# Altium schematic symbol library Tarefinha.SchLib: 12 symbols
Pins are listed as number, name and electrical type; pins without a type are passive.

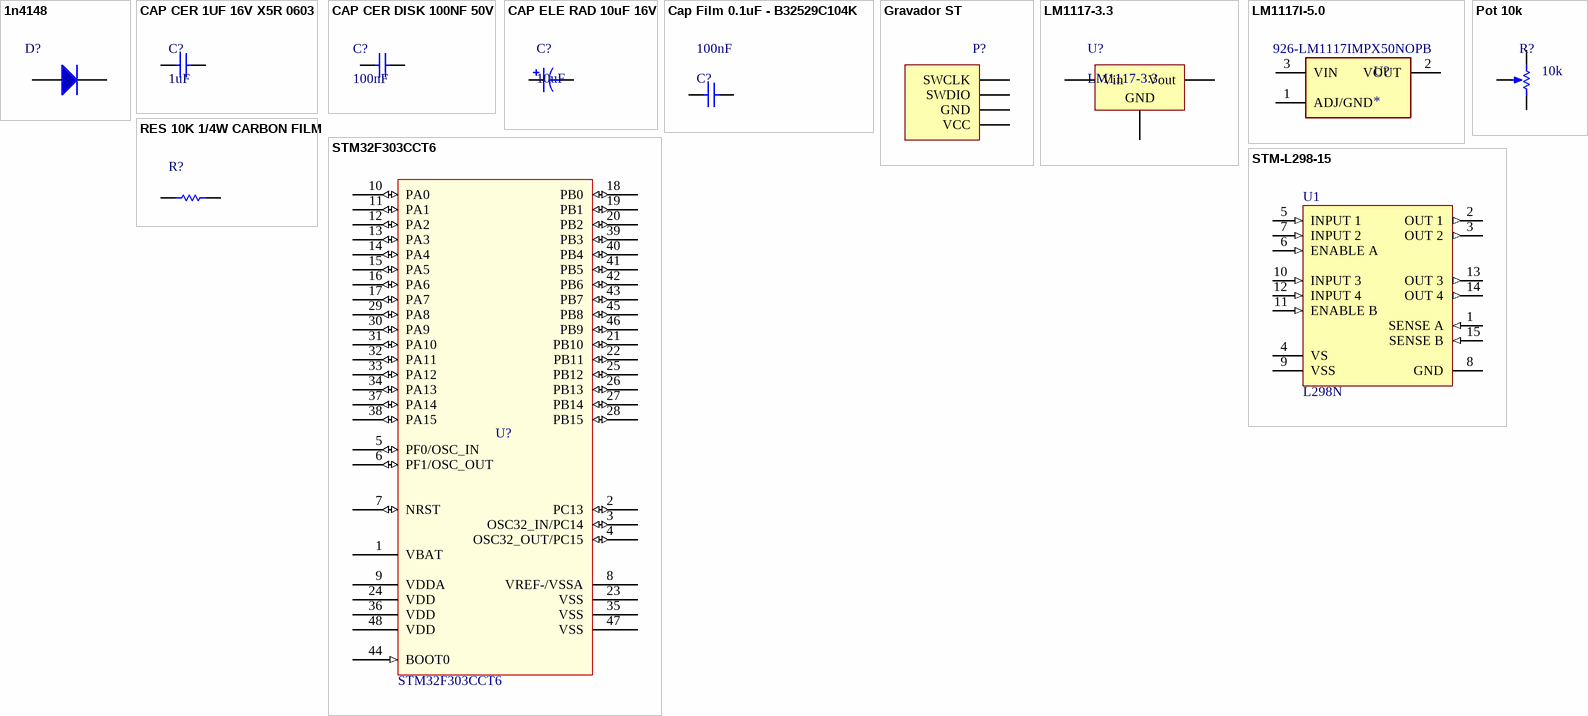
[diagram p0: symbols 1n4148 to STM-L298-15]

## 1n4148
designator D?  (value not drawn)
DIODE GEN PURP 75V 2A SOD123; Manufacturer: Vishay Semiconductor Diodes Division; Manufacturer Part Number: 1N4148W-E3-08; Diode Type: Standard; Current - Average Rectified (Io): 150mA; Voltage - Forward (Vf) (Max) @ If: 1.2V @ 100mA; Speed: Small Signal =< 200mA (Io), Any Speed; Reverse Recovery Time (trr): 4ns; Current - Reverse Leakage @ Vr: 100µA @ 100V; Capacitance @ Vr, F: 4pF @ 0V, 1MHz; Supplier 1: Digi-Key; RoHS: RoHS Compliant; Category: Discrete Semiconductor Products; Stock 1: 32600; Pricing 1: 1=0.23, 10=0.188, 25=0.1576, 100=0.0998, 250=0.07704, 500=0.06566, 1000=0.04465 (USD); Packaging: Cut Tape (CT); Part Status: Active; Voltage - DC Reverse (Vr) (Max): 75V; Mounting Type: Surface Mount; Package / Case: SOD-123; Supplier Device Package: SOD-123; Operating Temperature - Junction: 150°C (Max); ComponentLink1URL: http://www.vishay.com/docs/85748/1n4148w.pdf; ComponentLink1Description: http://www.vishay.com/docs/85748/1n4148w.pdf; Supplier Part Number 1: 1N4148W-E3-08CT-ND
footprint DO-41 (Diode, thru-hole)
pins: 1, 2

## CAP CER 1UF 16V X5R 0603
designator C?, comment 1uF
CAP CER 1UF 16V X5R 0603; Manufacturer: Murata Electronics North America; Manufacturer Part Number: GRM188R61C105KA93D; Capacitance: 1µF; Tolerance: ±10%; Supplier 1: Digi-Key; RoHS: RoHS Compliant; Category: Capacitors; Stock 1: 899102; Pricing 1: 1=0.1, 10=0.034, 50=0.0182, 100=0.0154, 250=0.0126, 500=0.01078, 1000=0.0084 (USD); Packaging: Cut Tape (CT); Part Status: Active; Voltage - Rated: 16V; Temperature Coefficient: X5R; Operating Temperature: -55°C ~ 85°C; Features: -; Ratings: -; Applications: General Purpose; Failure Rate: *; Mounting Type: Surface Mount, MLCC; Package / Case: 0603 (1608 Metric); Size / Dimension: 0.063" L x 0.031" W (1.60mm x 0.80mm); Height - Seated (Max): -; Thickness (Max): 0.035" (0.90mm); Lead Spacing: -; Lead Style: -; ComponentLink1URL: http://www.murata.com/~/media/webrenewal/support/library/catalog/products/capacitor/mlcc/c02e.pdf; ComponentLink1Description: http://www.murata.com/~/media/webrenewal/support/library/catalog/products/capacitor/mlcc/c02e.pdf; Supplier Part Number 1: 490-1536-1-ND
footprint CAP CER DISK 100NF 50V - duplicate (Connector; Header; 5 Position)
pins: 1, 2

## CAP CER DISK 100NF 50V
designator C?, comment 100nF
CAP CER DISK 100NF 50V; Manufacturer Part Number: IMP14925; Product Range: MCFY Series; Capacitance: 0.1uF; Capacitance Tolerance: +80%, -20%; Dielectric Characteristic: Y5; Voltage Rating: 50; Capacitor Terminals: Radial Leaded; SVHC: No SVHC (15-Jun-2015); Supplier 1: Mult Comercial; Manufacturer: -; RoHS: YES; Stock 1: 115809; Pricing 1: 1=0.10 (BRL); Packaging: Each; Lead Spacing: 5; Operating Temperature Min: -25; Operating Temperature Max: 85; Capacitance Tolerance ±: +80%, -20%; Operating Temperature Range: -25°C to +85°C<!--FANDB--><div class="features-and-benefits-container"><div class="features-and-benefits-description"><span class="features-benefits-value">The MCFY series from Multicomp are radial leaded ceramic disc capacitors. The capacitance values ranges from 6800pF to 0.22?F.</span></div><div class="features-and-benefits-list"><ul class="features-and-benefits-list-list"><li class="features-and-benefits-list-item">Large capacitance in small size</li><li class="features-and-benefits-list-item">Rated voltage of 50V</li><li class="features-and-benefits-list-item">80%/-20% tolerance</li><li class="features-and-benefits-list-item">Operating temperature range -25°C to +85; ComponentLink1URL: http://loja.multcomercial.com.br/capacitor-ceramico-disco-100kpf-50v-104-100k-100nf-0-1uf-cod-1351.html; ComponentLink1Description: http://loja.multcomercial.com.br/capacitor-ceramico-disco-100kpf-50v-104-100k-100nf-0-1uf-cod-1351.html; Supplier Part Number 1: Capacitor Cerâmico Disco 100Kpf/50V (104/100K/100nF/0.1uF) cód. 1351
footprint CAP CER DISK 100NF 50V (Connector; Header; 5 Position)
pins: 1, 2

## CAP ELE RAD 10uF 16V
designator C?, comment 10uF
CAP ELE RAD 10uF 16V; Manufacturer Part Number: IMP1295; Product Range: MCGPR Series; Capacitance Tolerance: ± 20%; Voltage Rating: 16; Capacitor Terminals: Radial Leaded; Lifetime @ Temperature: 2000 hours @ 85; SVHC: No SVHC (15-Jun-2015); Leakage Current: 6; Supplier 1: Mult Comercial; Manufacturer: -; RoHS: YES; Stock 1: 33826; Pricing 1: 1=0.50 (BRL); Capacitance: 10uF; Diameter: 5; Packaging: Each; ESR: -; Height: 11; Lead Spacing: 2; Operating Temperature Min: -40; Operating Temperature Max: 85; Capacitance Tolerance ±: ± 20%; Operating Temperature Range: -40°C to +85°C<!--FANDB--><div class="features-and-benefits-container"><div class="features-and-benefits-description"><span class="features-benefits-value">The Multicomp MCGPR series capacitors are general purpose, radial leaded polarized aluminium electrolytic capacitors. MCGPR series parts cover broad range of voltage ratings and capacitance values.</span></div><div class="features-and-benefits-list"><ul class="features-and-benefits-list-list"><li class="features-and-benefits-list-item">Capacitance value ranges from 0.1µF to 22000µF for 6.3VDC to 100VDC</li><li class="features-and-benefits-list-item">Capacitance value ranges from 0.47µF to 820µF for 160VDC to 450VDC</li><li class="features-and-benefits-list-item">Tolerance of ±20%</li><li class="features-and-benefits-list-item">Endurance of 2000h at 85°C</li><li class="features-and-benefits-list-item">Available in -40°C to 85°C and -25°C to 85; ComponentLink1URL: http://loja.multcomercial.com.br/capacitor-eletrolitico-10uf-16v.html; ComponentLink1Description: http://loja.multcomercial.com.br/capacitor-eletrolitico-10uf-16v.html; Supplier Part Number 1: Capacitor Eletrolítico 10uF/16V
footprint CAP RAD 10UF 35V
pins: 1, 2

## Cap Film 0.1uF - B32529C104K
designator C?, comment Capacitance: 100nF  (hidden comment: Cap Film 0.1uF)
Cap Film 0.1uF 63V PET 10% (7.2 X 2.5 X 6.5mm) Radial 5mm 125C Bulk; Manufacturer: TDK EPCOS; Manufacturer Part Number: B32529C104K; Material: PVC,Resin; Voltage Rating (AC): 40V; Life (Hours): 200000Hour; Insulation Resistance: 15GR; Lead Diameter: 0.5mm; Lead Length: 6mm; Supplier 1: Newark; Stock 1: 0; Mount: PCB,Through Hole; Case/Package: Radial; Number of Pins: 2; Dielectric Material: PET; Contact Plating: Matte,Tin; Min Operating Temperature: -55°C; Max Operating Temperature: 125°C; Voltage Rating: 63V; Tolerance: 10%; Packaging: Bulk; Voltage Rating (DC): 63V; Package Quantity: 2000; Termination: Radial; Dielectric: PET; Length: 7.2mm; Height: 6.5mm; Lead Pitch: 5mm; Width: 2.5mm; Height - Seated (Max): 0.256inch; Depth: 2.5mm; Pitch: 5mm; Radiation Hardening: No; REACH SVHC: No SVHC; Lead Free: Lead Free; ComponentLink1URL: http://www.farnell.com/datasheets/8708.pdf?src-supplier=Element14; ComponentLink1Description: http://www.farnell.com/datasheets/8708.pdf?src-supplier=Element14; ComponentLink2URL: https://www.distrelec.biz/Web/Downloads/_t/ds/b3252x_eng_tds.pdf?mime=application%2Fpdf&src-supplier=Distrelec; ComponentLink2Description: https://www.distrelec.biz/Web/Downloads/_t/ds/b3252x_eng_tds.pdf?mime=application%2Fpdf&src-supplier=Distrelec; ComponentLink3URL: http://www.farnell.com/datasheets/1955213.pdf?src-supplier=Farnell; ComponentLink3Description: http://www.farnell.com/datasheets/1955213.pdf?src-supplier=Farnell; ComponentLink4URL: https://www.verical.com/server-webapp/html/getDatasheet?partID=117180&src-supplier=Verical; ComponentLink4Description: https://www.verical.com/server-webapp/html/getDatasheet?partID=117180&src-supplier=Verical; ComponentLink5URL: https://produktinfo.conrad.com/datenblaetter/500000-524999/500871-da-01-en-METALLPOLYESTER_KONDENSATOR_0_10_UF.pdf?src-supplier=Conrad; ComponentLink5Description: https://produktinfo.conrad.com/datenblaetter/500000-524999/500871-da-01-en-METALLPOLYESTER_KONDENSATOR_0_10_UF.pdf?src-supplier=Conrad; Supplier Part Number 1: 21C0469
footprint Cap Film 0.1uF
pins: 1, 2

## Gravador ST
designator P?  (value not drawn)
Headers & Wire Housings 40Pin 2mm Spacing Single Row Hdrs, 5pc; Manufacturer: Cromax; Manufacturer Part Number: IMP10327; Mounting Angle: Vertical; Number of Positions: 40 Position; Supplier 1: Mult Comercial; RoHS: RoHS Compliant; Category: Headers & Wire Housings; Stock 1: 14; Pricing 1: 1=1.00, 5=0.20 (BRL); Accessory Type: -; Contact Plating: Gold; Contact Type: -; Number of Rows: 1 Row; Product: Headers; Termination Style: Through Hole; Type: Breakaway; Brand: Cromax; Mounting Style: Straight Pin; Pitch: 2 mm; Row Spacing: -; Contact Gender: Pin (Male); Product Category: Accessories; RoHS - Mouser: Y; Minimum Order Quantity: 1; Reeling: False; ComponentLink1URL: http://loja.multcomercial.com.br/barra-de-pinos-simples-1x40-macho-bmo40-1e.html; ComponentLink1Description: http://loja.multcomercial.com.br/barra-de-pinos-simples-1x40-macho-bmo40-1e.html; Supplier Part Number 1: Barra de Pinos Simples 1x40 Macho BMO40-1E
footprint HDR1X4
pins: 1 VCC, 2 GND, 3 SWDIO (power), 4 SWCLK (power)

## LM1117-3.3
designator U?
IC REG LDO 3.3V 0.8A SOT223; Manufacturer: Texas Instruments (TI); Manufacturer Part Number: LM1117IMPX-3.3/NOPB; Dropout Voltage@Current (Max): 1.3@100mA/1.35@500mA; Dropout Voltage@Current (Typ): 1.1@100mA/1.15@500mA; Regulator Output Type: Fixed; Polarity Type: Positive; Number of Outputs: 1; Input Voltage: 15V; Output Current: 800mA; Load Regulation: 1mV; Output Voltage Accuracy: ±1%; Quiescent Current (Max): 15mA; Supplier 1: Digikey; Stock 1: 30275; Pricing 1: 1=1.04, 10=0.927, 100=0.7229, 500=0.5978, 1000=0.4728 (USD); Topology: LDO; Voltage Regulator Type: LDO; Output Voltage: 3.3V; Package Type: SOT-223; Packaging: Tape and Reel; Line Regulation: 1mV; Operating Temp Range: -40C to 125C; Operating Temperature Classification: Automotive; Pin Count: 3 +Tab; Mounting: Surface Mount; ComponentLink1URL: https://datasheet.ciiva.com/49047/1882372-49047126.pdf; ComponentLink1Description: https://datasheet.ciiva.com/49047/1882372-49047126.pdf; ComponentLink2URL: https://datasheet.ciiva.com/46386/1882372-46386044.pdf; ComponentLink2Description: https://datasheet.ciiva.com/46386/1882372-46386044.pdf; Supplier Part Number 1: LM1117IMPX-3.3/NOPBDKR-ND
footprint TO220AB
pins: 1 GND, 2 Vout, 3 Vin

## LM1117I-5.0
designator U?  Supplier Part Number 1: 926-LM1117IMPX50NOPB
5V LDO Voltage Regulator 800mA; Manufacturer: Texas Instruments; Manufacturer Part Number: LM1117IMPX-5.0/NOPB; Quiescent Current: 5mA; Dropout Voltage: 1.2V; Case/Package: SOT; Number of Pins: 3; Output Voltage: 5V; Output Current: 800mA; Packaging: Tape and Reel; REACH SVHC: No SVHC; Lead Free: Lead Free; ComponentLink1Description: Datasheet; ComponentLink1URL: http://www.ti.com/lit/ds/symlink/lm1117.pdf?HQS=TI-null-null-mousermode-df-pf-null-wwe&DCM=yes&ref_url=https%3A%2F%2Fbr.mouser.com%2F; ComponentLink2Description: Mouser; ComponentLink2URL: https://br.mouser.com/ProductDetail/Texas-Instruments/LM1117IMPX-50-NOPB?qs=sGAEpiMZZMsGz1a6aV8DcCERHZHPu4lvRjG0WFCuZBk%3D; Supplier 1: Mouser
footprint TO254P1054X470X1955-3
pins: 1 ADJ/GND, 2 VOUT, 3 VIN

## Pot 10k
designator R?  Resistance (Ohms): 10k  (hidden comment: Pot 10k)
POT 10K OHM 1/20W PLASTIC LINEAR; Manufacturer: TT Electronics/BI; Manufacturer Part Number: P120PK-Y25BR10K; Tolerance: ±20%; Built in Switch: None; Power (Watts): 0.05W, 1/20W; Number of Turns: 1; Rotation: 300°; Adjustment Type: Top Adjustment; Resistive Material: Conductive Plastic; Actuator Type: Knurled; Actuator Length: 0.984" (25.00mm); Actuator Diameter: 0.236" (6.00mm); Supplier 1: Digi-Key; RoHS: RoHS Compliant; Category: Potentiometers, Variable Resistors; Stock 1: 1210; Pricing 1: 1=0.6, 10=0.553, 25=0.4932, 50=0.476, 100=0.442, 250=0.43352, 500=0.3995, 1000=0.34, 5000=0.2805 (USD); Packaging: Tray; Part Status: Active; Taper: Linear; Temperature Coefficient: -; Termination Style: PC Pins, Board Locks; Bushing Thread: -; Mounting Type: Through Hole, Snap In; ComponentLink1URL: http://www.ttelectronics.com/sites/default/files/download-files/Datasheet_RotaryPanelPot_P120series.pdf; ComponentLink1Description: http://www.ttelectronics.com/sites/default/files/download-files/Datasheet_RotaryPanelPot_P120series.pdf; Supplier Part Number 1: 987-1710-ND
footprint Pot 10k
pins: 1 TOP, 2 TAP, 3 BOT

## RES 10K 1/4W CARBON FILM
designator R?  (value not drawn)
RES 10K OHM 1/4W 5% CARBON FILM; Manufacturer: Ty-Ohm; Manufacturer Part Number: CR25; Power (Watts): 0.25W, 1/4W; Temperature Coefficient: 0/ -500ppm/°C; Supplier 1: Mult Comercial; RoHS: RoHS Compliant; Category: Resistors; Stock 1: 617543; Pricing 1: 1=0.20 (BRL); Packaging: Cut Tape (CT); Tolerance: ±5%; Composition: Carbon Film; Features: Flame Retardant Coating, Safety; Operating Temperature: -55°C ~ 155°C; Package / Case: Axial; Supplier Device Package: Axial; Size / Dimension: 0.091" Dia x 0.256" L (2.30mm x 6.50mm); Height: -; Number of Terminations: 2; ComponentLink1URL: http://loja.multcomercial.com.br/resistor-de-1-4-de-watt-cr25-5-de-tolerancia.html; ComponentLink1Description: http://loja.multcomercial.com.br/resistor-de-1-4-de-watt-cr25-5-de-tolerancia.html; Supplier Part Number 1: Resistor de Filme de Carbono 1/4 de Watt CR25 5% de tolerância - 0.22R Ω à 10M Ω; Resistance (Ohms): ?
footprint RES 10K 1/4W CARBON FILM
pins: 1, 2

## STM32F303CCT6
designator U?  Manufacturer Part Number: STM32F303CCT6  (hidden comment: *)
STMICROELECTRONICS         STM32F303CCT6             32 Bit Microcontroller, General Purpose, ARM Cortex-M4, 72 MHz, 256 KB, 40 KB, 48 Pins, LQFP; Other Related Documents: STM32F303CC View All Specifications; Core Processor: ARM® Cortex™-M4; Core Size: 32-Bit; Speed: 72MHz; Connectivity: CAN, I²C, IrDA, LIN, SPI, UART/USART, USB; Peripherals: DMA, I²S, POR, PWM, WDT; Number of I /O: 37; Program Memory Size: 256KB (256K x 8); Program Memory Type: FLASH; RAM Size: 48K x 8; Voltage - Supply (Vcc/Vdd): 2 V ~ 3.6 V; Data Converters: A/D 4x12b; D/A 2x12b; Oscillator Type: Internal; Dynamic Catalog: STM32 F3 Series; Other Names: 497-13318; Supplier 1: Mouser; Manufacturer: STMicroelectronics; Stock 1: 0; Pricing 1: 1=5.94, 10=5.05, 50=5.05, 100=4.38, 1000=3.14, 10000=2.99 (USD); Standard Package: 250; Category: Integrated Circuits (ICs); Family: Embedded - Microcontrollers; Series: STM32 F3; Operating Temperature: -40°C ~ 85°C; Package / Case: 48-LQFP; Packaging: Tray; ComponentLink1URL: https://datasheet.ciiva.com/14666/0900766b81171360-14666656.pdf; ComponentLink1Description: https://datasheet.ciiva.com/14666/0900766b81171360-14666656.pdf; ComponentLink2URL: https://datasheet.ciiva.com/8055/1831499-8055015.pdf; ComponentLink2Description: https://datasheet.ciiva.com/8055/1831499-8055015.pdf; Supplier Part Number 1: 511-STM32F303CCT6
footprint ADAPTADOR (SMD)
pins: 1 VBAT (power), 2 PC13 (io), 3 OSC32_IN/PC14 (io), 4 OSC32_OUT/PC15 (io), 5 PF0/OSC_IN (io), 6 PF1/OSC_OUT (io), 7 NRST (io), 8 VREF-/VSSA (power), 9 VDDA (power), 10 PA0 (io), 11 PA1 (io), 12 PA2 (io), 13 PA3 (io), 14 PA4 (io), 15 PA5 (io), 16 PA6 (io), 17 PA7 (io), 18 PB0 (io), 19 PB1 (io), 20 PB2 (io), 21 PB10 (io), 22 PB11 (io), 23 VSS (power), 24 VDD (power), 25 PB12 (io), 26 PB13 (io), 27 PB14 (io), 28 PB15 (io), 29 PA8 (io), 30 PA9 (io), 31 PA10 (io), 32 PA11 (io), 33 PA12 (io), 34 PA13 (io), 35 VSS (power), 36 VDD (power), 37 PA14 (io), 38 PA15 (io), 39 PB3 (io), 40 PB4 (io), 41 PB5 (io), 42 PB6 (io), 43 PB7 (io), 44 BOOT0 (in), 45 PB8 (io), 46 PB9 (io), 47 VSS (power), 48 VDD (power)

## STM-L298-15
designator U1, comment L298N
IC BRIDGE DRIVER PAR 15MULTIWATT
footprint STM-FM-15 (FM, 15-Leads, Body 20.2x5mm, Pitch 1.27mm)
pins: 1 SENSE A (in) "Between this pin and ground is connected the sense resistor to control the current of the load", 2 OUT 1 (out) "Outputs of the Bridge A; the current that flows through the load connected between these two pins is monitored at pin 1.", 3 OUT 2 (out) "Outputs of the Bridge A; the current that flows through the load connected between these two pins is monitored at pin 1.", 4 VS (power) "Supply Voltage for the Power Output Stages.A non-inductive 100nF capacitor must be connected between this pin and ground.", 5 INPUT 1 (in) "TTL Compatible Inputs of the Bridge A", 6 ENABLE A (in) "TTL Compatible Enable Input: the L state disables the bridge A (enable A) and/or the bridge B (enable B).", 7 INPUT 2 (in) "TTL Compatible Inputs of the Bridge A", 8 GND (power) "Ground", 9 VSS (power) "Supply Voltage for the Logic Blocks. A100nF capacitor must be connected between this pin and ground.", 10 INPUT 3 (in) "TTL Compatible Inputs of the Bridge B.", 11 ENABLE B (in) "TTL Compatible Enable Input: the L state disables the bridge A (enable A) and/or the bridge B (enable B).", 12 INPUT 4 (in) "TTL Compatible Inputs of the Bridge B.", 13 OUT 3 (out) "Outputs of the Bridge B. The current that flows through the load connected between these two pins is monitored at pin 15.", 14 OUT 4 (out) "Outputs of the Bridge B. The current that flows through the load connected between these two pins is monitored at pin 15.", 15 SENSE B (in) "Between this pin and ground is connected the sense resistor to control the current of the load"